# Altium footprint library MSOP-12_MSE.PcbLib: 1 footprints
Each footprint in its own frame and in the unit in brackets; x right, y up, seen from the top. Pads: shape width x height; smd on the part's side, far side on the other; paste and mask are expansions set on the pad; w line width, h text height; cw(c..) or ccw(c..) is an arc to the next point about the centre after c.
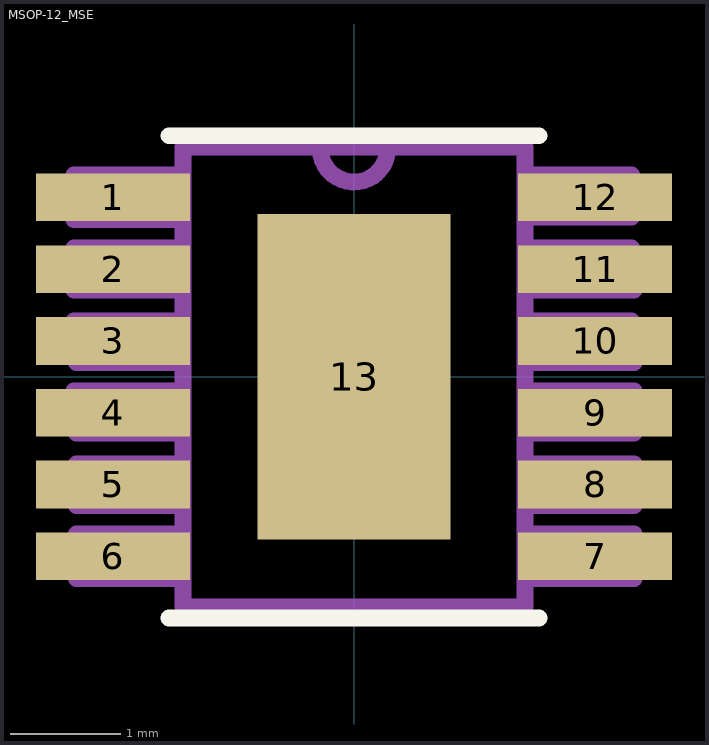
[diagram p0: the footprint, top view; thin cyan lines are the x and y axes]

## MSOP-12_MSE [mil]
pads (13):
  rect 55x17 smd: 1(-86,64) 2(-86,38.4) 3(-86,12.8) 4(-86,-12.8) 5(-86,-38.4) 6(-86,-64) 7(86,-64) 8(86,-38.4) 9(86,-12.8) 10(86,12.8) 11(86,38.4) 12(86,64)
  rect 69x116 smd paste-78.74: 13(0,0)
Top Overlay:
  lines w6: -66,-86 66,-86 ; -66,86 66,86
Top Paste:
  region: 30.56,-54.06 -30.56,-54.06 -30.56,-3.94 30.56,-3.94
  region: 30.56,3.94 -30.56,3.94 -30.56,54.06 30.56,54.06
Mechanical 13:
  lines w6: -12,81.08 ccw(c0,81.5) 12,81.92 ; -100,-5 -99,-20 -61,-20 -61,-5 -100,-5 ; -100,20 -99,5 -61,5 -61,20 -100,20 ; -100,31 -61,31 -61,46 -100,46 -100,31 ; -100,56 -61,56 -61,72 -100,72 -100,56 ; -99,-72 -61,-72 -61,-56 -99,-56 -99,-72 ; -99,-46 -61,-46 -61,-31 -99,-31 -99,-46 ; -61,-82 -61,82 12,82 61,82 61,-82 -61,-82 ; 61,-72 100,-72 100,-56 61,-56 61,-72 ; 61,-46 100,-46 100,-31 61,-31 61,-46 ; 61,-20 100,-20 100,-5 61,-5 61,-20 ; 61,5 100,5 99,20 61,20 61,5 ; 61,31 100,31 99,46 61,46 61,31 ; 61,57 99,57 99,72 61,72 61,57
3D body "step_temp.STEP": height 41.93, standoff -1.38, extent -96.46,-79.51 96.46,79.51